# Altium footprint library PcbLib1.PcbLib: 8 footprints
Each footprint in its own frame and in the unit in brackets; x right, y up, seen from the top. Pads: shape width x height; smd on the part's side, far side on the other; paste and mask are expansions set on the pad; w line width, h text height; cw(c..) or ccw(c..) is an arc to the next point about the centre after c.
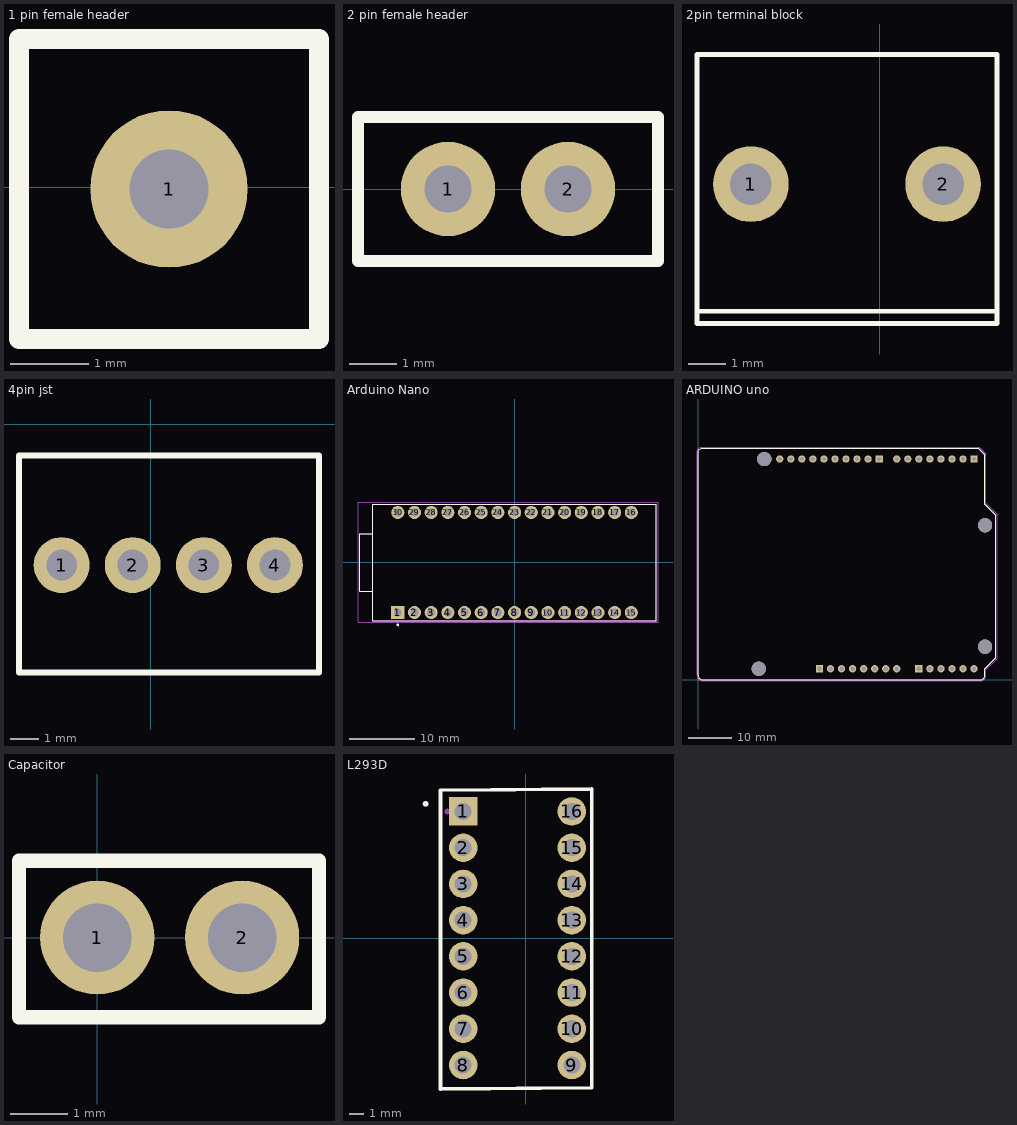
[diagram p0: the footprints below, top view; thin cyan lines are the x and y axes]

## 1 pin female header [mm]
pads (1):
  round 2 hole 1: 1(2.591,-0.025)
Top Overlay:
  lines w0.254: 0.686,-1.93 4.496,-1.93 4.496,1.88 0.686,1.88 0.686,-1.93

## 2 pin female header [mm]
pads (2):
  round 2 hole 1: 1(-8.458,0) 2(-5.918,0)
Top Overlay:
  lines w0.254: -10.363,-1.524 -10.363,1.524 -4.013,1.524 -4.013,-1.524 -10.363,-1.524

## 2pin terminal block [mm]
pads (2):
  round 2 hole 1.1: 1(-3.404,-6.452) 2(1.676,-6.452)
Top Overlay:
  lines w0.127: -4.826,-9.806 -4.826,-10.135 3.099,-10.135 3.099,-9.806 ; -4.826,-9.806 -4.826,-3.023 3.099,-3.023 3.099,-9.806 ; -4.826,-9.806 3.099,-9.806

## 4pin jst [mm]
pads (4):
  round 2 hole 1.1: 1(-3.175,-5.029) 2(-0.635,-5.029) 3(1.905,-5.029) 4(4.445,-5.029)
Top Overlay:
  lines w0.203: -4.699,-8.865 6.02,-8.865 6.02,-1.118 -4.699,-1.118 -4.699,-8.865

## Arduino Nano [mm]
pads (30):
  rect 2x2 hole 1.2: 1(-17.78,-7.62)
  round 2 hole 1.2: 2(-15.24,-7.62) 3(-12.7,-7.62) 4(-10.16,-7.62) 5(-7.62,-7.62) 6(-5.08,-7.62) 7(-2.54,-7.62) 8(0,-7.62) 9(2.54,-7.62) 10(5.08,-7.62) 11(7.62,-7.62) 12(10.16,-7.62) 13(12.7,-7.62) 14(15.24,-7.62) 15(17.78,-7.62) 16(17.78,7.62) 17(15.24,7.62) 18(12.7,7.62) 19(10.16,7.62) 20(7.62,7.62) 21(5.08,7.62) 22(2.54,7.62) 23(0,7.62) 24(-2.54,7.62) 25(-5.08,7.62) 26(-7.62,7.62) 27(-10.16,7.62) 28(-12.7,7.62) 29(-15.24,7.62) 30(-17.78,7.62)
Top Overlay:
  circle w0.2: c-17.78,-9.5 r0.1
  lines w0.127: -21.59,-4.4 -21.59,4.4 ; -21.59,-4.4 -21.59,-8.885 21.59,-8.885 21.59,8.885 -21.59,8.885 -21.59,4.4 ; -21.59,-4.4 -23.59,-4.4 -23.59,4.4 -21.59,4.4
Mechanical 13:
  circle w0.2: c-17.78,-9.5 r0.1
  lines w0.127: -21.59,-4.4 -23.59,-4.4 -23.59,4.4 -21.59,4.4 ; -21.59,-8.885 21.59,-8.885 21.59,8.885 -21.59,8.885 -21.59,-8.885
Mechanical 15:
  lines w0.05: -23.84,-9.135 21.84,-9.135 21.84,9.135 -23.84,9.135 -23.84,-4.65 -23.84,-9.135
3D body "ABX00053--3DModel-STEP-56544.STEP": height 8.51, standoff -5.49, extent -23.114,-8.885 21.466,8.885

## ARDUINO uno [mil]
pads (36):
  round 66 hole 40: 3V3(1400,100) 5V(1500,100) A1(2100,100) A2(2200,100) A3(2300,100) A4(2400,100) A4(SDA)(840,2000) A5(2500,100) A5(SCL)(740,2000) AREF(940,2000) D1(2400,2000) D2(2300,2000) D3(2200,2000) D4(2100,2000) D5(2000,2000) D6(1900,2000) D7(1800,2000) D9(1540,2000) D10(1440,2000) D11(1340,2000) D12(1240,2000) D13(1140,2000) GND_1(1700,100) GND_2(1600,100) GND_3(1040,2000) IOREF(1200,100) RST(1300,100) VIN(1800,100)
  rect 66x66 / inner round 66 / far side rect 66x66 hole 40: A0(2000,100) D0(2500,2000) D8(1640,2000) P1(1100,100)
  round 129.92 hole 129.92 unplated: ""(550,100) ""(600,2000) ""(2600,300) ""(2600,1400)
Top Overlay:
  lines w5: 0,39.1 0,2058.39 1.67,2069.21 5,2078.38 11.66,2086.71 19.99,2092.54 29.16,2096.7 39.15,2098.37 2538.27,2098.37 2598.25,2038.39 2598.25,1588.55 2698.21,1488.59 2698.21,199.87 2598.25,99.91 2598.25,39.1 2596.58,29.1 2593.25,19.94 2586.59,11.61 2578.26,4.94 2569.09,1.61 2559.09,-0.05 39.15,-0.05 29.16,1.61 19.99,4.94 11.66,11.61 5,19.94 1.67,29.1 0,39.1
Mechanical 13:
  lines w5: 0,39.1 0,2058.39 1.67,2069.21 5,2078.38 11.66,2086.71 19.99,2092.54 29.16,2096.7 39.15,2098.37 2538.27,2098.37 2598.25,2038.39 2598.25,1588.55 2698.21,1488.59 2698.21,199.87 2598.25,99.91 2598.25,39.1 2596.58,29.1 2593.25,19.94 2586.59,11.61 2578.26,4.94 2569.09,1.61 2559.09,-0.05 39.15,-0.05 29.16,1.61 19.99,4.94 11.66,11.61 5,19.94 1.67,29.1 0,39.1
Mechanical 15:
  lines w1.97: -9.84,39.1 -9.84,39.37 -9.84,2068.23 -8.18,2079.06 -4.84,2088.22 1.82,2096.55 10.15,2102.38 19.31,2106.55 29.31,2108.21 2548.11,2108.21 2608.09,2048.23 2608.09,1598.39 2708.06,1498.43 2708.06,190.03 2608.09,90.07 2608.09,39.1 ; -9.83,39.5 ccw(c36.7,36.25) 29.4,-9.82 ; 29.31,-9.9 2559.09,-9.9 ; 2558.61,-9.86 ccw(c2556.81,41.62) 2608.25,38.92
3D body "A000066.STEP": height 467.33, standoff -117.72, extent -265.52,5 2690,2105

## Capacitor [mm]
pads (2):
  round 2 hole 1.2: 1(0,0) 2(2.54,0)
Top Overlay:
  lines w0.254: -1.372,-1.397 -1.372,1.346 3.886,1.346 3.886,-1.397 -1.372,-1.397

## L293D [mm]
height 5.1
pads (16):
  rect 2x2 hole 1.2: 1(-4.4,8.89)
  round 2 hole 1.2: 2(-4.4,6.35) 3(-4.4,3.81) 4(-4.4,1.27) 5(-4.4,-1.27) 6(-4.4,-3.81) 7(-4.4,-6.35) 8(-4.4,-8.89) 9(3.22,-8.89) 10(3.22,-6.35) 11(3.22,-3.81) 12(3.22,-1.27) 13(3.22,1.27) 14(3.22,3.81) 15(3.22,6.35) 16(3.22,8.89)
Top Overlay:
  circle w0.2: c-7.036,9.423 r0.1
  lines w0.254: -5.994,-10.572 4.622,-10.483 4.622,10.464 -5.994,10.375 -5.994,-10.572
Mechanical 13:
  circle w0.2: c-5.525,8.89 r0.1
3D body "L293D-3DModel.STEP": height -4.32, standoff -12.72, extent -5.122,-10.16 4.118,9.84